# EAGLE library part SN74LVC4245ADBR (library SamacSys_Parts)
Texas Instruments SN74LVC4245ADBR, Bus Transceiver, 8-Bit Non-Inverting LVTTL, 2.7 3.6 V, 4.5 5.5 V Source: Datasheet <http://www.ti.com/lit/gpn/sn74lvc4245a>
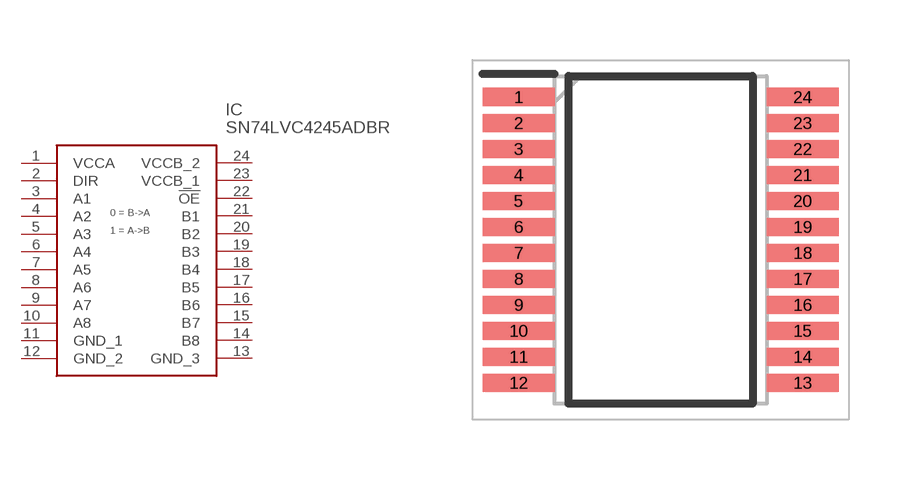
[diagram p220: symbol with the pads of SOP65P780X200-24N; footprint SOP65P780X200-24N]

Designator prefix IC

## SN74LVC4245ADBR (DESCRIPTION: Texas Instruments SN74LVC4245ADBR, Bus Transceiver, 8-Bit Non-Inverting LVTTL, 2.7 3.6 V, 4.5 5.5 V; HEIGHT: 2mm; MANUFACTURER_NAME: Texas Instruments; MANUFACTURER_PART_NUMBER: SN74LVC4245ADBR; MOUSER_PART_NUMBER: 595-SN74LVC4245ADBR; MOUSER_PRICE-STOCK: https://www.mouser.co.uk/ProductDetail/Texas-Instruments/SN74LVC4245ADBR?qs=L4Mc90zKIph6AglUYk%2Fkzw%3D%3D)  [SOP65P780X200-24N]
1  VCCA
2  DIR
3  A1
4  A2
5  A3
6  A4
7  A5
8  A6
9  A7
10  A8
11  GND_1
12  GND_2
13  GND_3
14  B8
15  B7
16  B6
17  B5
18  B4
19  B3
20  B2
21  B1
22  !OE
23  VCCB_1
24  VCCB_2

## Footprint SOP65P780X200-24N (pad centres in mm)
DB (R-PDSO-G24)
smd 1.8 x 0.45: 1 -3.55,3.575; 2 -3.55,2.925; 3 -3.55,2.275; 4 -3.55,1.625; 5 -3.55,0.975; 6 -3.55,0.325; 7 -3.55,-0.325; 8 -3.55,-0.975; 9 -3.55,-1.625; 10 -3.55,-2.275; 11 -3.55,-2.925; 12 -3.55,-3.575; 13 3.55,-3.575; 14 3.55,-2.925; 15 3.55,-2.275; 16 3.55,-1.625; 17 3.55,-0.975; 18 3.55,-0.325; 19 3.55,0.325; 20 3.55,0.975; 21 3.55,1.625; 22 3.55,2.275; 23 3.55,2.925; 24 3.55,3.575